# EAGLE library part WE-TVS-SS_MSOP-10L_82401444 (library 82400102_Eagle_WE-TVS_rev19a)
WE-TVS TVS Diode – Super Speed Series Characteristics Fast turn-on Low clamping voltage Very low capacitance Rail to Rail protection Small package Epoxy flame resistant UL94-V0 Applications Super Speed data lines HDMI 1.3/1.4/2.0, DVI DisplayPort USB 3.1 Gen 1 (5Gb/s) SATA and eSATA GBit LAN Thunderbolt LVDS ESD protection in accordance with EN 61000-4-2 – 8 kV contact discharge – 15 kV air discharge SS = Super Speed <https://katalog.we-online.com/media/images/v2/o106434v209%20Family_WE-TVS-SuperSpeed.jpg> Details see: https://katalog.we-online.com/en/pbs/WE-TVS-SS Updated by Ella Wu 2019-07-12 2019 (C) Wurth Elektronik
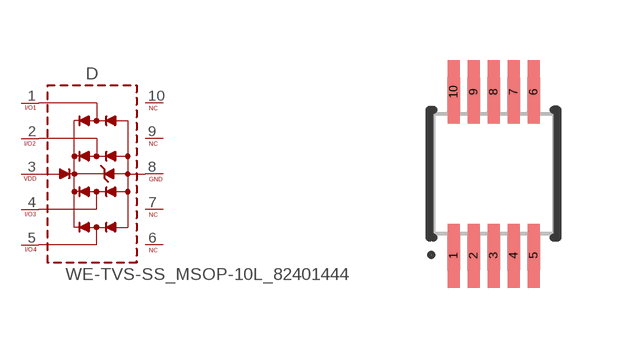
[diagram p15: symbol with the pads of WE-TVS_MSOP-10L; footprint WE-TVS_MSOP-10L]

Designator prefix D

## WE-TVS-SS_MSOP-10L_82401444 (C-CH: 0.6pF; CHANNELS: 4+1; DATASHEET-URL: https://katalog.we-online.com/pbs/datasheet/82401444.pdf; IPEAK: 5A; MOUNT: SMT; PART-NUMBER: 82401444; VALUE: 5Vdc; VBR: 6V)  [WE-TVS_MSOP-10L]
1  I/O1
2  I/O2
3  VDD  pwr
4  I/O3
5  I/O4
6  6  nc
7  7  nc
8  GND  pwr
9  9  nc
10  10  nc

## Footprint WE-TVS_MSOP-10L (pad centres in mm)
WE-TVS TVS Diode Size: MSOP-10L L X W X H = 4.9mm X 3mm X 0.975mm
smd 0.3 x 1.6: 1 -1,-2.05; 2 -0.5,-2.05; 3 0,-2.05; 4 0.5,-2.05; 5 1,-2.05; 6 1,2.05; 7 0.5,2.05; 8 0,2.05; 9 -0.5,2.05; 10 -1,2.05